# Altium footprint library USB_Con.PcbLib: 4 footprints
Each footprint in its own frame and in the unit in brackets; x right, y up, seen from the top. Pads: shape width x height; smd on the part's side, far side on the other; paste and mask are expansions set on the pad; w line width, h text height; cw(c..) or ccw(c..) is an arc to the next point about the centre after c.
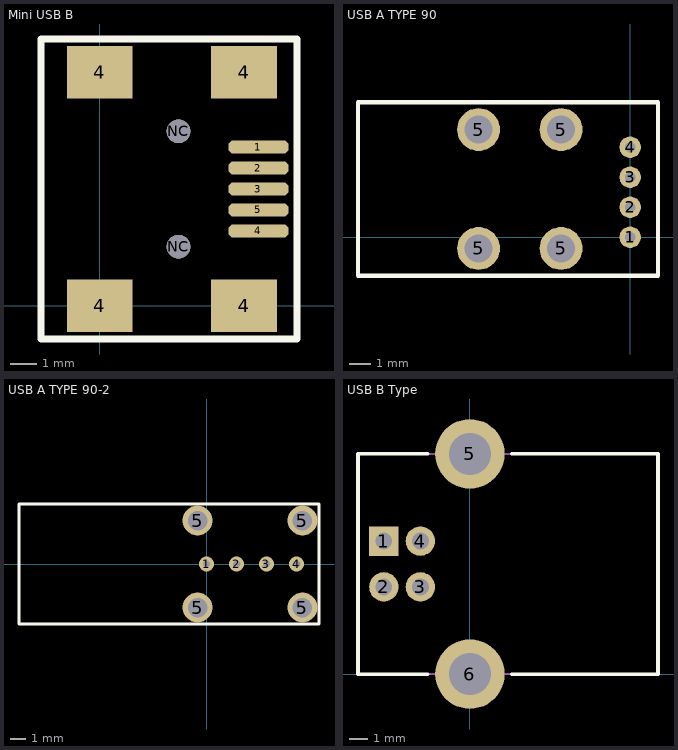
[diagram p0: the footprints below, top view; thin cyan lines are the x and y axes]

## Mini USB B [mm]
height 5
pads (11):
  oct 2.3x0.5 smd: 1(6.05,6.05) 2(6.05,5.25) 3(6.05,4.45) 4(6.05,2.85) 5(6.05,3.65)
  rect 2.5x2 smd: 4(0,0) 4(0,8.9) 4(5.5,0) 4(5.5,8.9)
  round 0.9 hole 0.9 paste+0 mask+0: NC(3,2.25) NC(3,6.65)
Top Overlay:
  lines w0.254: -2.25,-1.275 -2.25,10.175 7.525,10.175 7.525,-1.275 -2.25,-1.275
3D body: height 3.95, standoff -1, extent -2.95,-0.875 6.25,9.825

## USB A TYPE 90 [mm]
pads (8):
  round 1 hole 0.5: 1(0,0) 2(0,1.4) 3(0,2.8) 4(0,4.2)
  round 2 hole 1.3: 5(-7.075,-0.525) 5(-7.075,5.025) 5(-3.225,-0.525) 5(-3.225,5.025)
Top Overlay:
  lines w0.2: -12.7,-1.8 -12.7,6.3 1.3,6.3 1.3,-1.8 -12.7,-1.8
3D body: height 15.12, standoff -2.75, extent -12.55,-1.25 1.13,5.75

## USB A TYPE 90-2 [mm]
pads (8):
  round 1 hole 0.5: 1(0,0) 2(2,0) 3(4,0) 4(6,0)
  round 2 hole 1.3: 5(-0.6,-2.9) 5(-0.6,2.9) 5(6.4,-2.9) 5(6.4,2.9)
Top Overlay:
  lines w0.2: -12.5,-4 -12.5,4 4,4 7.5,4 7.5,-4 0.5,-4 -12.5,-4
3D body: height 14.55, standoff -3.6, extent -12.25,-3.56 7,3.56

## USB B Type [mm]
pads (6):
  rect 1.6x1.6 hole 0.92: 1(-4.71,7.27)
  round 1.6 hole 0.92: 2(-4.71,4.77) 3(-2.71,4.77) 4(-2.71,7.27)
  round 3.8 hole 2.3: 5(0,12.04) 6(0,0)
Top Overlay:
  lines w0.2: -2.3,0 -6.12,0 -6.12,12.04 -2.3,12.04 ; 2.3,0 10.28,0 10.28,12.04 2.3,12.04
Mechanical 13:
  lines w0.1: -6.12,0 -6.12,12.04 10.28,12.04 10.28,0 -6.12,0
3D body: height 11.1, standoff 0, extent -6.12,0 10.28,12.04